# EAGLE library part TPS79301 (library RHD2000_eval_board)
Texas Instruments TPS79301 adjustable regulator
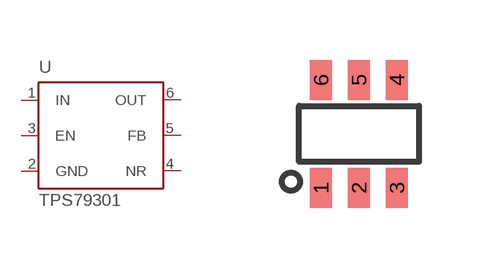
[diagram p7: symbol with the pads of SOT-23-6; footprint SOT-23-6]

Designator prefix U

## TPS79301  [SOT-23-6]
1  IN  pwr
2  GND  pwr
3  EN  in
4  NR  pas
5  FB  in
6  OUT  pwr

## Footprint SOT-23-6 (pad centres in mm)
smd 0.55 x 1: 1 -0.95,-1.35; 2 0,-1.35; 3 0.95,-1.35; 4 0.95,1.35; 5 0,1.35; 6 -0.95,1.35